# EAGLE library part I-04524_R8C-M11A (library Akizuki)
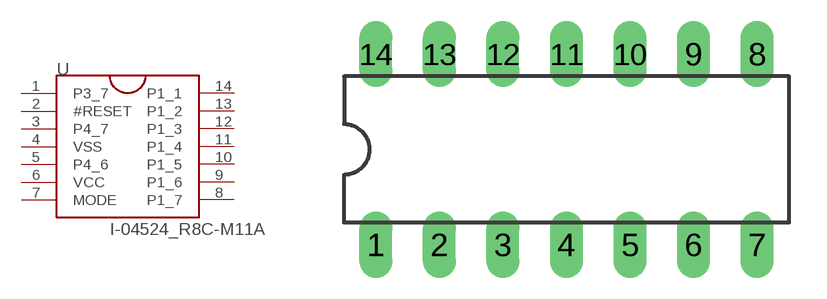
[diagram p7: symbol with the pads of DIL14; footprint DIL14]

Designator prefix U

## I-04524_R8C-M11A  [DIL14]
1  P3_7
2  #RESET
3  P4_7
4  VSS
5  P4_6
6  VCC
7  MODE
8  P1_7
9  P1_6
10  P1_5
11  P1_4
12  P1_3
13  P1_2
14  P1_1

## Footprint DIL14 (pad centres in mm)
Dual In Line Package
drill 0.813 long: 1 -7.62,-3.81; 2 -5.08,-3.81; 3 -2.54,-3.81; 4 0,-3.81; 5 2.54,-3.81; 6 5.08,-3.81; 7 7.62,-3.81; 8 7.62,3.81; 9 5.08,3.81; 10 2.54,3.81; 11 0,3.81; 12 -2.54,3.81; 13 -5.08,3.81; 14 -7.62,3.81